# Altium footprint library rtls.PcbLib: 6 footprints
Each footprint in its own frame and in the unit in brackets; x right, y up, seen from the top. Pads: shape width x height; smd on the part's side, far side on the other; paste and mask are expansions set on the pad; w line width, h text height; cw(c..) or ccw(c..) is an arc to the next point about the centre after c.
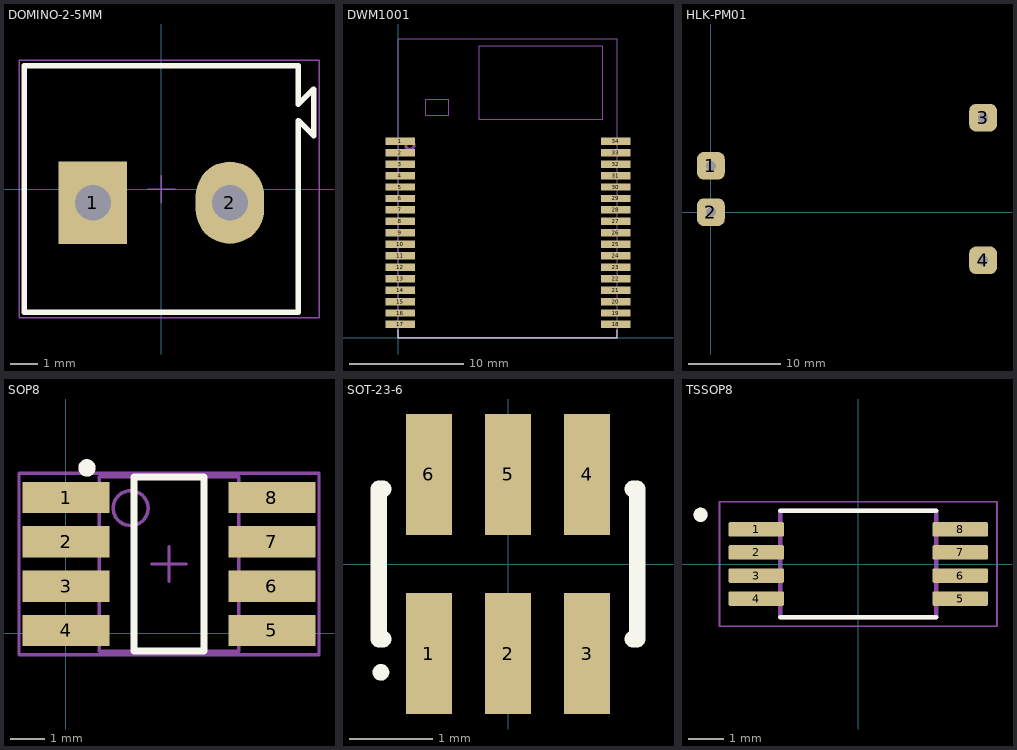
[diagram p0: the footprints below, top view; thin cyan lines are the x and y axes]

## DOMINO-2-5MM [mm] "Serie 1347 - 5.00 mm_2 pins"
height 13
pads (2):
  rect 2.5x3 hole 1.3: 1(-2.5,-0.5)
  oval 2.5x3 hole 1.3: 2(2.5,-0.5)
Top Overlay:
  lines w0.2: -5,-4.5 5,-4.5 5,2.5 5.55,1.95 5.55,3.65 5,3.1 5,4.5 -5,4.5 -5,-4.5
Mechanical 13:
  lines w0.1: -5,-4.5 -5,4.5 5,4.5 5,3.1 5.55,3.65 5.55,1.95 5,2.5 5,-4.5 -5,-4.5
Mechanical 15:
  lines w0.05: -0.5,0 0.5,0 ; 0,-0.5 0,0.5 ; -5.2,-4.7 5.75,-4.7 5.75,4.7 -5.2,4.7 -5.2,-4.7
3D body "691134710002.stp": height 13.1, standoff -3.9, extent -5,-4.5 5.55,4.5

## DWM1001 [mm] "DWM1001 MODULE"
height 4
pads (34):
  rect 2.54x0.65 smd: 1(0.16,17.15) 2(0.16,16.15) 3(0.16,15.15) 4(0.16,14.15) 5(0.16,13.15) 6(0.16,12.15) 7(0.16,11.15) 8(0.16,10.15) 9(0.16,9.15) 10(0.16,8.15) 11(0.16,7.15) 12(0.16,6.15) 13(0.16,5.15) 14(0.16,4.15) 15(0.16,3.15) 16(0.16,2.15) 17(0.16,1.15) 18(18.97,1.15) 19(18.97,2.15) 20(18.97,3.15) 21(18.97,4.15) 22(18.97,5.15) 23(18.97,6.15) 24(18.97,7.15) 25(18.97,8.15) 26(18.97,9.15) 27(18.97,10.15) 28(18.97,11.15) 29(18.97,12.15) 30(18.97,13.15) 31(18.97,14.15) 32(18.97,15.15) 33(18.97,16.15) 34(18.97,17.15)
Top Overlay:
  lines w0.1: 0,0.7 0,0 19.1,0 19.1,0.7
Mechanical 1:
  lines w0.1: 0,0 0,26.075 19.1,26.075 19.1,0.025 0,0.025 0,0.9
Mechanical 16:
  circle w0.254: c1,16.8 r0.361
  lines w0.1: 0,0.025 0,26.075 19.1,26.075 19.1,0.025 0,0.025 ; 2.4,19.4 2.4,20.8 4.4,20.8 4.4,19.4 2.4,19.4 ; 7.075,19.05 7.075,25.475 17.85,25.475 17.85,19.05 7.075,19.05
Mechanical 29:
  text ".Designator" at 5.6,11.6 h0.8
3D body "dm1_b2_V2.step": height 4.6, standoff 0.03, extent 0,0 19.125,26.125

## HLK-PM01 [mm]
pads (4):
  rrect50% 3x3 hole 1.1: 1(0,5) 2(0,0) 3(29.4,10.2) 4(29.4,-5.2)
3D body "hlk-pm01.step": height 15, standoff -5, extent -2.3,-7.5 31.7,12.7

## SOP8 [mm]
pads (8):
  rect 2.5x0.9 smd: 1(0.013,3.889) 2(0.013,2.619) 3(0.013,1.349) 4(0.013,0.079) 5(5.913,0.079) 6(5.913,1.349) 7(5.913,2.619) 8(5.913,3.889)
Top Overlay:
  circle w0.25: c0.613,4.739 r0.125
  lines w0.2: 1.963,-0.516 1.963,4.484 3.963,4.484 3.963,-0.516 1.963,-0.516
Mechanical 13:
  circle w0.1: c1.863,3.584 r0.5
  lines w0.1: 0.963,-0.516 0.963,4.484 4.963,4.484 4.963,-0.516 0.963,-0.516
Mechanical 15:
  lines w0.1: 2.463,1.984 3.463,1.984 ; 2.963,1.484 2.963,2.484 ; -1.337,-0.616 -1.337,4.584 7.263,4.584 7.263,-0.616 -1.337,-0.616
3D body "SOIC8.step": height 1.75, standoff 0, extent -0.037,-0.466 5.963,4.434

## SOT-23-6 [mm]
height 1.45
pads (6):
  rect 0.55x1.45 smd: 1(-0.95,-1.075) 2(0,-1.075) 3(0.95,-1.075) 4(0.95,1.075) 5(0,1.075) 6(-0.95,1.075)
Top Overlay:
  circle w0.1: c-1.525,-1.3 r0.05
  lines w0.2: -1.5,-0.9 -1.55,-0.9 -1.55,0.9 -1.5,0.9 ; 1.5,-0.9 1.55,-0.9 1.55,0.9 1.5,0.9
3D body "SOT23-6L.stp": height 1.45, standoff 0, extent -1.499,-1.525 1.5,1.475

## TSSOP8 [mm]
pads (8):
  rrect25% 1.57x0.41 smd: 1(-2.87,0.975) 2(-2.87,0.325) 3(-2.87,-0.325) 4(-2.87,-0.975) 5(2.87,-0.975) 6(2.87,-0.325) 7(2.87,0.325) 8(2.87,0.975)
Top Overlay:
  circle w0.2: c-4.44,1.385 r0.1
  lines w0.127: -2.2,-1.5 2.2,-1.5 ; -2.2,1.5 2.2,1.5
Mechanical 13:
  circle w0.2: c-4.44,1.385 r0.1
  lines w0.127: -2.2,-1.5 -2.2,1.5 2.2,1.5 2.2,-1.5 -2.2,-1.5
Mechanical 15:
  lines w0.05: -3.905,-1.75 -3.905,1.75 3.905,1.75 3.905,-1.75 -3.905,-1.75
3D body "tssop8.STEP": height 1.08, standoff -0.02, extent -3.174,-1.508 3.226,1.492